# Altium schematic symbol library FMP Power Mgt.SchLib: 3 symbols
Pins are listed as number, name and electrical type; pins without a type are passive.

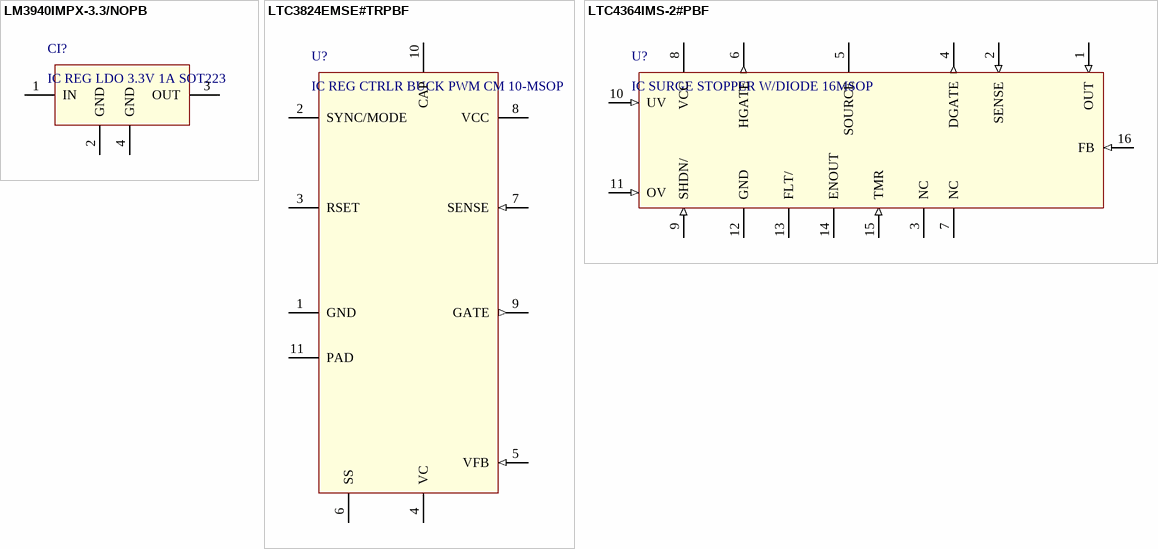
[diagram p0: symbols LM3940IMPX-3.3/NOPB to LTC4364IMS-2#PBF]

## LM3940IMPX-3.3/NOPB
designator CI?, comment IC REG LDO 3.3V 1A SOT223
Manufacturer: Texas Instruments; Manufacturer Part Number: LM3940IMPX-3.3/NOPB; Regulator Topology: Positive Fixed; Voltage - Dropout (Typical): 0.5V @ 1A; Number of Regulators: 1; Voltage - Input: Up to 7.5V; Supplier 1: Digi-Key; RoHS: RoHS Compliant; Description: IC REG LDO 3.3V 1A SOT223; Category: Integrated Circuits (ICs); Stock 1: 4000; Pricing 1: 2000=0.6132, 6000=0.58254, 10000=0.56064, 50000=0.5475 (USD); Packaging: Tape & Reel (TR); Voltage - Output: 3.3V; Current - Output: 1A; Current - Limit (Min): -; Operating Temperature: -40°C ~ 125°C; Mounting Type: Surface Mount; Package / Case: TO-261-4, TO-261AA; Supplier Device Package: SOT-223; ComponentLink1URL: http://www.ti.com/lit/ds/symlink/lm3940.pdf; ComponentLink1Description: http://www.ti.com/lit/ds/symlink/lm3940.pdf; Supplier Part Number 1: LM3940IMPX-3.3/NOPBTR-ND
footprint SOT-223 (PLASTIC SMALL-OUTLINE)
pins: 1 IN (power), 2 GND (power), 3 OUT (power), 4 GND (power)

## LTC3824EMSE#TRPBF
designator U?, comment IC REG CTRLR BUCK PWM CM 10-MSOP
Manufacturer: Linear Technology; Manufacturer Part Number: LTC3824EMSE#TRPBF; Number of Outputs: 1; Frequency - Max: 460kHz; Duty Cycle: 100%; Voltage - Supply: 4 V ~ 60 V; Buck: Yes; Boost: No; Supplier 1: Digi-Key; RoHS: RoHS Compliant; Description: IC REG CTRLR BUCK PWM CM 10-MSOP; Category: Integrated Circuits (ICs); Stock 1: 6667; Pricing 1: 1=4.64, 25=4.1456, 100=3.7311 (USD); Packaging: Cut Tape (CT); Flyback: No; Inverting: No; Doubler: No; Divider: No; Cuk: No; Isolated: No; Operating Temperature: -40°C ~ 125°C; Package / Case: 10-TFSOP, 10-MSOP (0.118", 3.00mm Width) Exposed Pad; Supplier Device Package: 10-MSOP-EP; ComponentLink1URL: http://www.linear.com/docs/15317; ComponentLink1Description: http://www.linear.com/docs/15317; Supplier Part Number 1: LTC3824EMSE#TRPBFCT-ND
footprint MSE-10 (10-Lead Plastic MSOP, Exposed Die Pad)
pins: 1 GND (power), 2 SYNC/MODE, 3 RSET, 4 VC, 5 VFB (in), 6 SS, 7 SENSE (in), 8 VCC (power), 9 GATE (out), 10 CAP, 11 PAD (power)

## LTC4364IMS-2#PBF
designator U?, comment IC SURGE STOPPER W/DIODE 16MSOP
Manufacturer: Linear Technology; Manufacturer Part Number: LTC4364IMS-2#PBF; Voltage - Working: 4 ~ 80V; Voltage - Clamping: Adjustable; Number of Circuits: 1; Supplier 1: Digi-Key; RoHS: RoHS Compliant; Description: IC SURGE STOPPER W/DIODE 16MSOP; Category: Circuit Protection; Stock 1: 0; Pricing 1: 1=8.47, 25=5.67, 100=4.82 (USD); Packaging: Tube; Technology: Mixed Technology; Power (Watts): -; Applications: Automotive; Package / Case: 16-TFSOP (0.118", 3.00mm Width); Supplier Device Package: 16-MSOP; ComponentLink1URL: http://cds.linear.com/docs/en/datasheet/436412f.pdf; ComponentLink1Description: http://cds.linear.com/docs/en/datasheet/436412f.pdf; Supplier Part Number 1: LTC4364IMS-2#PBF-ND
footprint MSOP-16 (16-Lead Plastic MSOP)
pins: 1 OUT (in), 2 SENSE (in), 3 NC, 4 DGATE (out), 5 SOURCE, 6 HGATE (out), 7 NC, 8 VCC (power), 9 SHDN/ (in), 10 UV (in), 11 OV (in), 12 GND (power), 13 FLT/ (oc), 14 ENOUT (oc), 15 TMR (in), 16 FB (in)